# Altium schematic symbol library cap0603.SchLib: 1 symbol
Pins are listed as number, name and electrical type; pins without a type are passive.

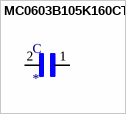
[diagram p0: symbol MC0603B105K160CT]

## MC0603B105K160CT
designator C
Cap, Mlcc, X7r, 1uf, 16v, 0603; MF: Multicomp; MP: MC0603B105K160CT; SnapEDA_Link: https://www.snapeda.com/parts/MC0603B105K160CT/Multicomp/view-part/276886/?ref=snap; Value: *; Price: None; Availability: Unavailable; Package: 0603 Multicomp
footprint CAPC1608X87N
pins: 1, 2